# Altium footprint library QUTMS_PowerSupplyLibrary.PcbLib: 1 footprints
Each footprint in its own frame and in the unit in brackets; x right, y up, seen from the top. Pads: shape width x height; smd on the part's side, far side on the other; paste and mask are expansions set on the pad; w line width, h text height; cw(c..) or ccw(c..) is an arc to the next point about the centre after c.
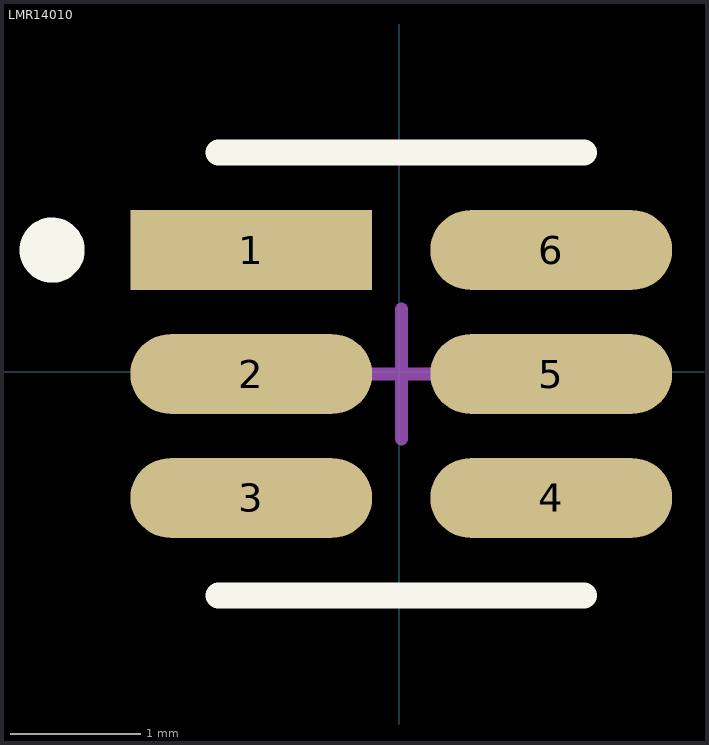
[diagram p0: the footprint, top view; thin cyan lines are the x and y axes]

## LMR14010 [mm]
pads (6):
  rect 1.854x0.612 smd paste+0 mask+0: 1(-1.136,0.933)
  rrect100% 1.854x0.612 smd paste+0 mask+0: 2(-1.136,-0.017) 3(-1.136,-0.967) 4(1.164,-0.967) 5(1.164,-0.017) 6(1.164,0.933)
Top Overlay:
  circle w0.25: c-2.663,0.933 r0.125
  lines w0.2: -1.386,-1.717 1.414,-1.717 ; -1.386,1.683 1.414,1.683
Mechanical 16:
  lines w0.1: -0.486,-0.017 0.514,-0.017 ; 0.014,-0.517 0.014,0.483
3D body "IC_Texas_Instruments_LMR14010ADDCR_eec.STEP": height 1.1, standoff 0, extent -1.386,-1.467 1.414,1.434